# Altium footprint library SOIC.PcbLib: 3 footprints
Each footprint in its own frame and in the unit in brackets; x right, y up, seen from the top. Pads: shape width x height; smd on the part's side, far side on the other; paste and mask are expansions set on the pad; w line width, h text height; cw(c..) or ccw(c..) is an arc to the next point about the centre after c.
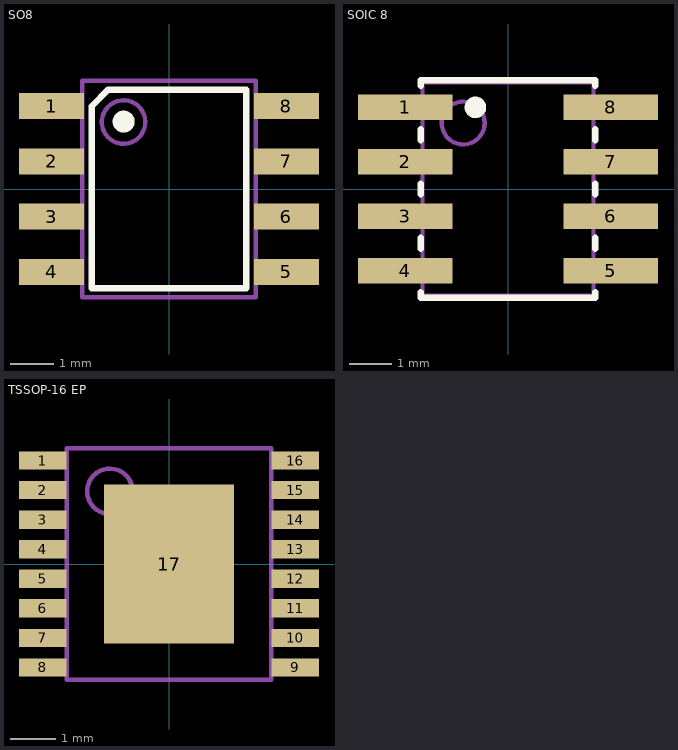
[diagram p0: the footprints below, top view; thin cyan lines are the x and y axes]

## SO8 [mm] "M8.15 (JEDEC MS-012-AA ISSUE C)  8 LEAD NARROW BODY SMALL OUTLINE PLASTIC  PACKAGE"
height 1.73
pads (8):
  rect 1.5x0.6 smd mask+0.025: 1(-2.7,1.905) 2(-2.7,0.635) 3(-2.7,-0.635) 4(-2.7,-1.905) 5(2.7,-1.905) 6(2.7,-0.635) 7(2.7,0.635) 8(2.7,1.905)
Top Overlay:
  circle w0.25: c-1.042,1.549 r0.128
  lines w0.152: -1.778,-2.286 1.778,-2.286 1.778,2.286 -1.397,2.286 -1.778,1.905 -1.778,-2.286
Mechanical 13:
  circle w0.1: c-1.045,1.54 r0.5
  lines w0.1: -1.995,-2.49 -1.995,2.49 1.995,2.49 1.995,-2.49 -1.995,-2.49
3D body: height 1.75, standoff 0, extent -2.9,-2.387 2.9,2.413

## SOIC 8 [mm] "SOIC, 8-Leads, Body 5.0x4.0mm (max), Pitch 1.27mm, IPC Medium Density"
height 1.73
pads (8):
  rect 2.2x0.6 smd: 1(-2.4,1.905) 2(-2.4,0.635) 3(-2.4,-0.635) 4(-2.4,-1.905) 5(2.4,-1.905) 6(2.4,-0.635) 7(2.4,0.635) 8(2.4,1.905)
Top Overlay:
  circle w0.25: c-0.76,1.905 r0.125
  lines w0.152: -2.032,-2.413 -2.032,-2.54 2.032,-2.54 2.032,-2.413 ; -2.032,-1.397 -2.032,-1.143 ; -2.032,-0.127 -2.032,0.127 ; -2.032,1.143 -2.032,1.397 ; -2.032,2.413 -2.032,2.54 2.032,2.54 2.032,2.413 ; 2.032,-1.397 2.032,-1.143 ; 2.032,-0.127 2.032,0.127 ; 2.032,1.143 2.032,1.397
Mechanical 13:
  circle w0.1: c-1.045,1.54 r0.5
  lines w0.1: -1.995,-2.49 -1.995,2.49 1.995,2.49 1.995,-2.49 -1.995,-2.49
3D body: height 1.75, standoff 0, extent -2.9,-2.387 2.9,2.413

## TSSOP-16 EP [mm] "Linear FE Package 16-Lead Plastic TSSOP Exposed Pad"
height 1.1
pads (17):
  rect 1.05x0.4 smd paste-0.05 mask+0: 1(-2.775,2.275) 2(-2.775,1.625) 3(-2.775,0.975) 4(-2.775,0.325) 5(-2.775,-0.325) 6(-2.775,-0.975) 7(-2.775,-1.625) 8(-2.775,-2.275) 9(2.775,-2.275) 10(2.775,-1.625) 11(2.775,-0.975) 12(2.775,-0.325) 13(2.775,0.325) 14(2.775,0.975) 15(2.775,1.625) 16(2.775,2.275)
  rect 2.85x3.5 smd: 17(0,0)
Mechanical 13:
  circle w0.1: c-1.3,1.6 r0.5
  lines w0.1: -2.25,-2.55 2.25,-2.55 2.25,2.55 -2.25,2.55 -2.25,-2.55
3D body: height 1.1, standoff 0.05, extent -2.25,-2.55 2.25,2.55